# Altium footprint library DIP14.PcbLib: 1 footprints
Each footprint in its own frame and in the unit in brackets; x right, y up, seen from the top. Pads: shape width x height; smd on the part's side, far side on the other; paste and mask are expansions set on the pad; w line width, h text height; cw(c..) or ccw(c..) is an arc to the next point about the centre after c.
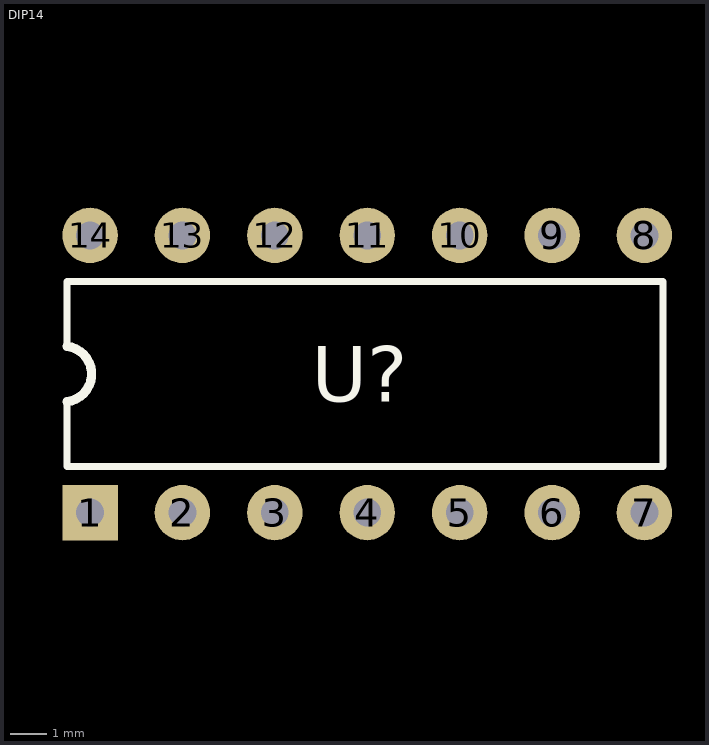
[diagram p0: the footprint, top view; thin cyan lines are the x and y axes]

## DIP14 [mil]
pads (14):
  rect 60x60 hole 30: 1(500,500)
  round 60 hole 30: 2(600,500) 3(700,500) 4(800,500) 5(900,500) 6(1000,500) 7(1100,500) 8(1100,800) 9(1000,800) 10(900,800) 11(800,800) 12(700,800) 13(600,800) 14(500,800)
Top Overlay:
  lines w7.87: 475,620 475,550 1120,550 1120,750 475,750 475,680
  lines w10: 475,620 ccw(c471.5,650) 475,680
  text "U?" at 740,620 h60